# EAGLE library part TC74HC153AP(F) (library TC74HC153AP(F))
IC, 74 high speed CMOS logic, TC74HC153A Toshiba TC74HC153AP(F), Multiplexer Dual 4:1, 16-Pin PDIP Source: Datasheet <http://toshiba.semicon-storage.com/info/docget.jsp?did=10324&prodName=TC74HC153AP>
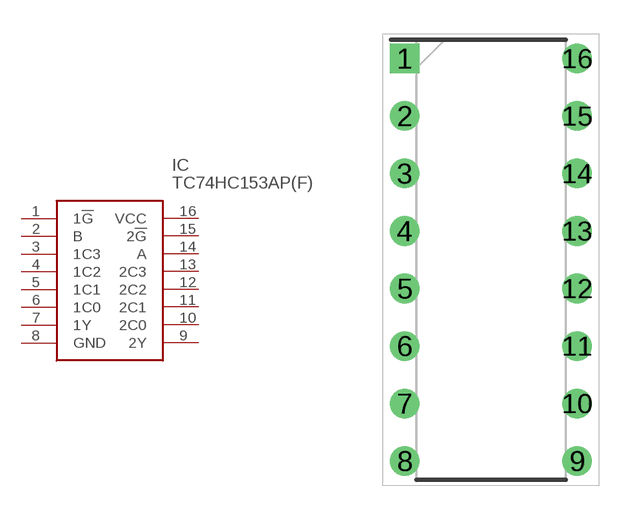
[diagram p0: symbol with the pads of DIP762W60P254L1925H445Q16N; footprint DIP762W60P254L1925H445Q16N]

Designator prefix IC

## TC74HC153AP(F) (Description: IC, 74 high speed CMOS logic, TC74HC153A Toshiba TC74HC153AP(F), Multiplexer Dual 4:1, 16-Pin PDIP; Height: 4.45mm; Manufacturer_Name: Toshiba; Manufacturer_Part_Number: TC74HC153AP(F); Mouser_Part_Number: N/A; Mouser_Price-Stock: https://www.mouser.com/Search/Refine.aspx?Keyword=N%2FA; RS_Part_Number: 5399563; RS_Price-Stock: http://uk.rs-online.com/web/p/products/5399563)  [DIP762W60P254L1925H445Q16N]
1  1!G
2  B
3  1C3
4  1C2
5  1C1
6  1C0
7  1Y
8  GND
9  2Y
10  2C0
11  2C1
12  2C2
13  2C3
14  A
15  2!G
16  VCC

## Footprint DIP762W60P254L1925H445Q16N (pad centres in mm)
DIP-16-P-300-2.54A
drill 0.8 pad 1.2 square: 1 -3.81,8.89
drill 0.8 pad 1.2: 2 -3.81,6.35; 3 -3.81,3.81; 4 -3.81,1.27; 5 -3.81,-1.27; 6 -3.81,-3.81; 7 -3.81,-6.35; 8 -3.81,-8.89; 9 3.81,-8.89; 10 3.81,-6.35; 11 3.81,-3.81; 12 3.81,-1.27; 13 3.81,1.27; 14 3.81,3.81; 15 3.81,6.35; 16 3.81,8.89